# EAGLE library part F09?S (library FansElectronics-Con-DB)
SUB-D
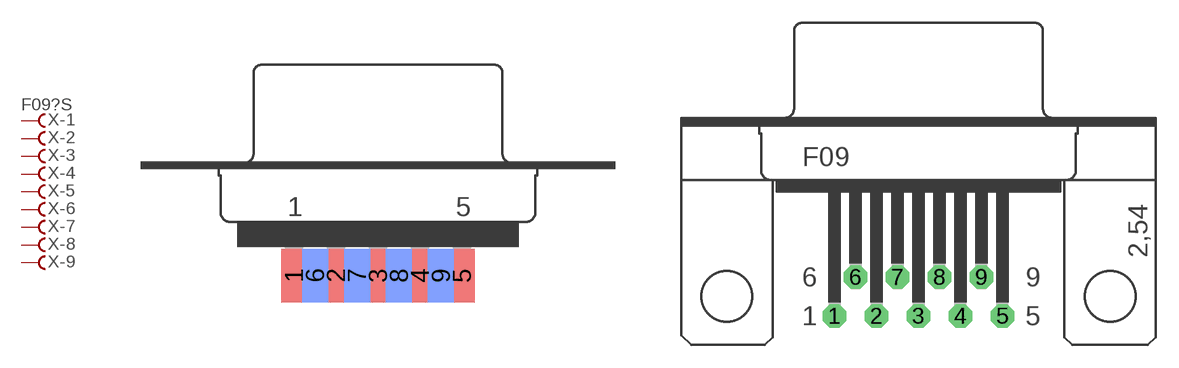
[diagram p59: symbol with the pads of F09D; footprints F09D, F09H]

Designator prefix X; gates -1=FV -2=F -3=F -4=F -5=F -6=F -7=F -8=F -9=F

## F09DS (OC_FARNELL: unknown; OC_NEWARK: unknown)  [F09D]
1  -1:F  pas
2  -2:F  pas
3  -3:F  pas
4  -4:F  pas
5  -5:F  pas
6  -6:F  pas
7  -7:F  pas
8  -8:F  pas
9  -9:F  pas

## F09HS (OC_FARNELL: unknown; OC_NEWARK: unknown)  [F09H]
Pads as for F09D

## F09HPS (OC_FARNELL: unknown; OC_NEWARK: unknown)  [F09HP]
Pads as for F09D

## F09VS (OC_FARNELL: unknown; OC_NEWARK: unknown)  [F09V]
Pads as for F09D

## F09VPS (OC_FARNELL: unknown; OC_NEWARK: unknown)  [F09VP]
Pads as for F09D

## F09VBS (OC_FARNELL: unknown; OC_NEWARK: unknown)  [F09VB]
Pads as for F09D

## F09.590S (OC_FARNELL: unknown; OC_NEWARK: unknown)  [177-009-FEMALE]
Pads as for F09D

## Footprint F09D (pad centres in mm)
SUB-D
smd 1.7 x 3.5: 1 -5.486,-6.045; 2 -2.743,-6.045; 3 0,-6.045; 4 2.743,-6.045; 5 5.486,-6.045
smd 1.7 x 3.5 bottom: 6 -4.115,-6.045; 7 -1.372,-6.045; 8 1.372,-6.045; 9 4.115,-6.045

## Footprint F09H (pad centres in mm)
SUB-D
drill 1.016 octagon: 1 -5.486,-1.27; 2 -2.743,-1.27; 3 0,-1.27; 4 2.743,-1.27; 5 5.486,-1.27; 6 -4.115,1.27; 7 -1.372,1.27; 8 1.372,1.27; 9 4.115,1.27
hole 3.302 at -12.522,0
hole 3.302 at 12.522,0

## Footprint F09HP (pad centres in mm)
SUB-D
drill 1.016 pad 1.93 octagon: 1 -5.486,-1.27; 2 -2.743,-1.27; 3 0,-1.27; 4 2.743,-1.27; 5 5.486,-1.27; 6 -4.115,1.27; 7 -1.372,1.27; 8 1.372,1.27; 9 4.115,1.27
drill 3.302 pad 5.08: G1 -12.522,0; G2 12.522,0

## Footprint F09V (pad centres in mm)
SUB-D
drill 1.016 octagon: 1 5.486,1.422; 2 2.743,1.422; 3 0,1.422; 4 -2.743,1.422; 5 -5.486,1.422; 6 4.115,-1.422; 7 1.372,-1.422; 8 -1.372,-1.422; 9 -4.115,-1.422
hole 3.302 at -12.522,0
hole 3.302 at 12.522,0

## Footprint F09VP (pad centres in mm)
SUB-D
drill 1.016 octagon: 1 5.486,1.422; 2 2.743,1.422; 3 0,1.422; 4 -2.743,1.422; 5 -5.486,1.422; 6 4.115,-1.422; 7 1.372,-1.422; 8 -1.372,-1.422; 9 -4.115,-1.422
drill 3.302 pad 5.08: G1 -12.522,0; G2 12.522,0

## Footprint F09VB (pad centres in mm)
SUB-D
drill 1.016 octagon: 1 -5.486,-1.422; 2 -2.743,-1.422; 3 0,-1.422; 4 2.743,-1.422; 5 5.486,-1.422; 6 -4.115,1.422; 7 -1.372,1.422; 8 1.372,1.422; 9 4.115,1.422

## Footprint 177-009-FEMALE (pad centres in mm)
NorComp 177 Series (0.590" Foorprint) Female 9 Pol. Source: Digi-Key, subd.pdf
drill 1.194 pad 1.524 octagon: 1 -5.537,-9.84; 2 -2.769,-9.84; 3 0,-9.84; 4 2.769,-9.84; 5 5.537,-9.84; 6 -4.153,-6.997; 7 -1.384,-6.997; 8 1.384,-6.997; 9 4.153,-6.997